# EAGLE library part TAS5612 (library BaseApp)
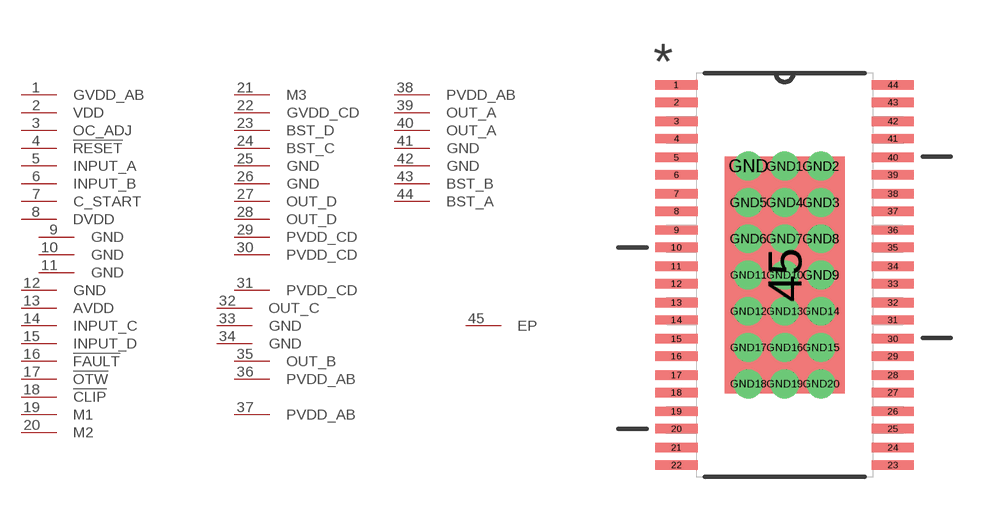
[diagram p114: symbol with the pads of 44HTSOP; footprint 44HTSOP]

Designator prefix -

## TAS5612  [44HTSOP]
1  GVDD_AB
2  VDD
3  OC_ADJ
4  !RESET
5  INPUT_A
6  INPUT_B
7  C_START
8  DVDD
9  GND
10  GND
11  GND
12  GND
13  AVDD
14  INPUT_C
15  INPUT_D
16  !FAULT
17  !OTW
18  !CLIP
19  M1
20  M2
21  M3
22  GVDD_CD
23  BST_D
24  BST_C
25  GND
26  GND
27  OUT_D
28  OUT_D
29  PVDD_CD
30  PVDD_CD
31  PVDD_CD
32  OUT_C
33  GND
34  GND
35  OUT_B
36  PVDD_AB
37  PVDD_AB
38  PVDD_AB
39  OUT_A
40  OUT_A
41  GND
42  GND
43  BST_B
44  BST_A
45  EP

## Footprint 44HTSOP (pad centres in mm)
smd 1.473 x 0.33: 1 -3.785,6.655; 2 -3.785,6.045; 3 -3.785,5.385; 4 -3.785,4.775; 5 -3.785,4.115; 6 -3.785,3.505; 7 -3.785,2.845; 8 -3.785,2.235; 9 -3.785,1.575; 10 -3.785,0.965; 11 -3.785,0.305; 12 -3.785,-0.305; 13 -3.785,-0.965; 14 -3.785,-1.575; 15 -3.785,-2.235; 16 -3.785,-2.845; 17 -3.785,-3.505; 18 -3.785,-4.115; 19 -3.785,-4.775; 20 -3.785,-5.385; 21 -3.785,-6.045; 22 -3.785,-6.655; 23 3.785,-6.655; 24 3.785,-6.045; 25 3.785,-5.385; 26 3.785,-4.775; 27 3.785,-4.115; 28 3.785,-3.505; 29 3.785,-2.845; 30 3.785,-2.235; 31 3.785,-1.575; 32 3.785,-0.965; 33 3.785,-0.305; 34 3.785,0.305; 35 3.785,0.965; 36 3.785,1.575; 37 3.785,2.235; 38 3.785,2.845; 39 3.785,3.505; 40 3.785,4.115; 41 3.785,4.775; 42 3.785,5.385; 43 3.785,6.045; 44 3.785,6.655
smd 4.191 x 8.306: 45 0,0
drill 0.5: GND -1.27,3.81; GND1 0,3.81; GND2 1.27,3.81; GND3 1.27,2.54; GND4 0,2.54; GND5 -1.27,2.54; GND6 -1.27,1.27; GND7 0,1.27; GND8 1.27,1.27; GND9 1.27,0; GND10 0,0; GND11 -1.27,0; GND12 -1.27,-1.27; GND13 0,-1.27; GND14 1.27,-1.27; GND15 1.27,-2.54; GND16 0,-2.54; GND17 -1.27,-2.54; GND18 -1.27,-3.81; GND19 0,-3.81; GND20 1.27,-3.81